# EAGLE library part CC1125RHBR (library CC1125RHBR)
Ultra-High performance Sub-1 GHz Transceiver for Narrowband Systems Source: Datasheet <http://www.ti.com/lit/gpn/cc1125>
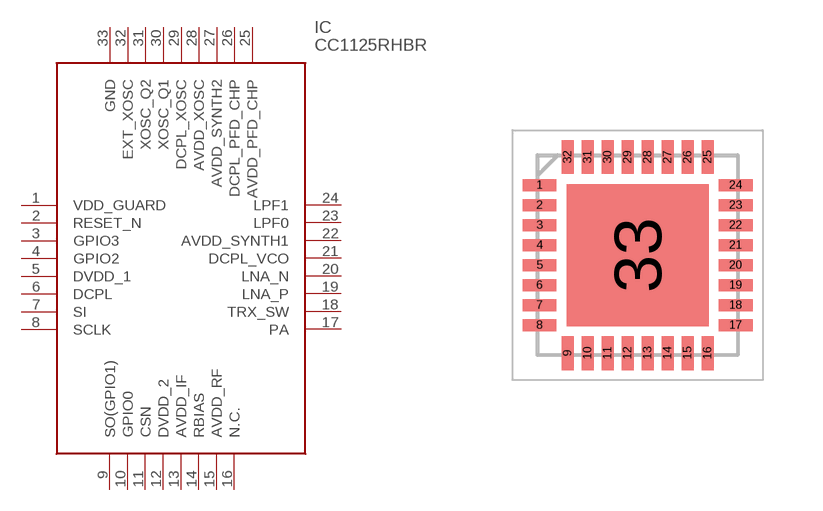
[diagram p0: symbol with the pads of QFN50P500X500X100-33N; footprint QFN50P500X500X100-33N]

Designator prefix IC

## CC1125RHBR (Description: Ultra-High performance Sub-1 GHz Transceiver for Narrowband Systems; Height: 1mm; Manufacturer_Name: Texas Instruments; Manufacturer_Part_Number: CC1125RHBR; Mouser_Part_Number: 595-CC1125RHBR; Mouser_Price-Stock: https://www.mouser.co.uk/ProductDetail/Texas-Instruments/CC1125RHBR?qs=uuvYgmlZVOsNmcFvwGcWqA%3D%3D)  [QFN50P500X500X100-33N]
1  VDD_GUARD
2  RESET_N
3  GPIO3
4  GPIO2
5  DVDD_1
6  DCPL
7  SI
8  SCLK
9  SO(GPIO1)
10  GPIO0
11  CSN
12  DVDD_2
13  AVDD_IF
14  RBIAS
15  AVDD_RF
16  N.C.  nc
17  PA
18  TRX_SW
19  LNA_P
20  LNA_N
21  DCPL_VCO
22  AVDD_SYNTH1
23  LPF0
24  LPF1
25  AVDD_PFD_CHP
26  DCPL_PFD_CHP
27  AVDD_SYNTH2
28  AVDD_XOSC
29  DCPL_XOSC
30  XOSC_Q1
31  XOSC_Q2
32  EXT_XOSC
33  GND

## Footprint QFN50P500X500X100-33N (pad centres in mm)
RHB0032N-1
smd 0.85 x 0.3: 1 -2.45,1.75; 2 -2.45,1.25; 3 -2.45,0.75; 4 -2.45,0.25; 5 -2.45,-0.25; 6 -2.45,-0.75; 7 -2.45,-1.25; 8 -2.45,-1.75; 17 2.45,-1.75; 18 2.45,-1.25; 19 2.45,-0.75; 20 2.45,-0.25; 21 2.45,0.25; 22 2.45,0.75; 23 2.45,1.25; 24 2.45,1.75
smd 0.3 x 0.85: 9 -1.75,-2.45; 10 -1.25,-2.45; 11 -0.75,-2.45; 12 -0.25,-2.45; 13 0.25,-2.45; 14 0.75,-2.45; 15 1.25,-2.45; 16 1.75,-2.45; 25 1.75,2.45; 26 1.25,2.45; 27 0.75,2.45; 28 0.25,2.45; 29 -0.25,2.45; 30 -0.75,2.45; 31 -1.25,2.45; 32 -1.75,2.45
smd 3.55 x 3.55: 33 0,0